# Altium footprint library Connectors.PcbLib: 28 footprints (part 2 of 2)
Each footprint in its own frame and in the unit in brackets; x right, y up, seen from the top. Pads: shape width x height; smd on the part's side, far side on the other; paste and mask are expansions set on the pad; w line width, h text height; cw(c..) or ccw(c..) is an arc to the next point about the centre after c.
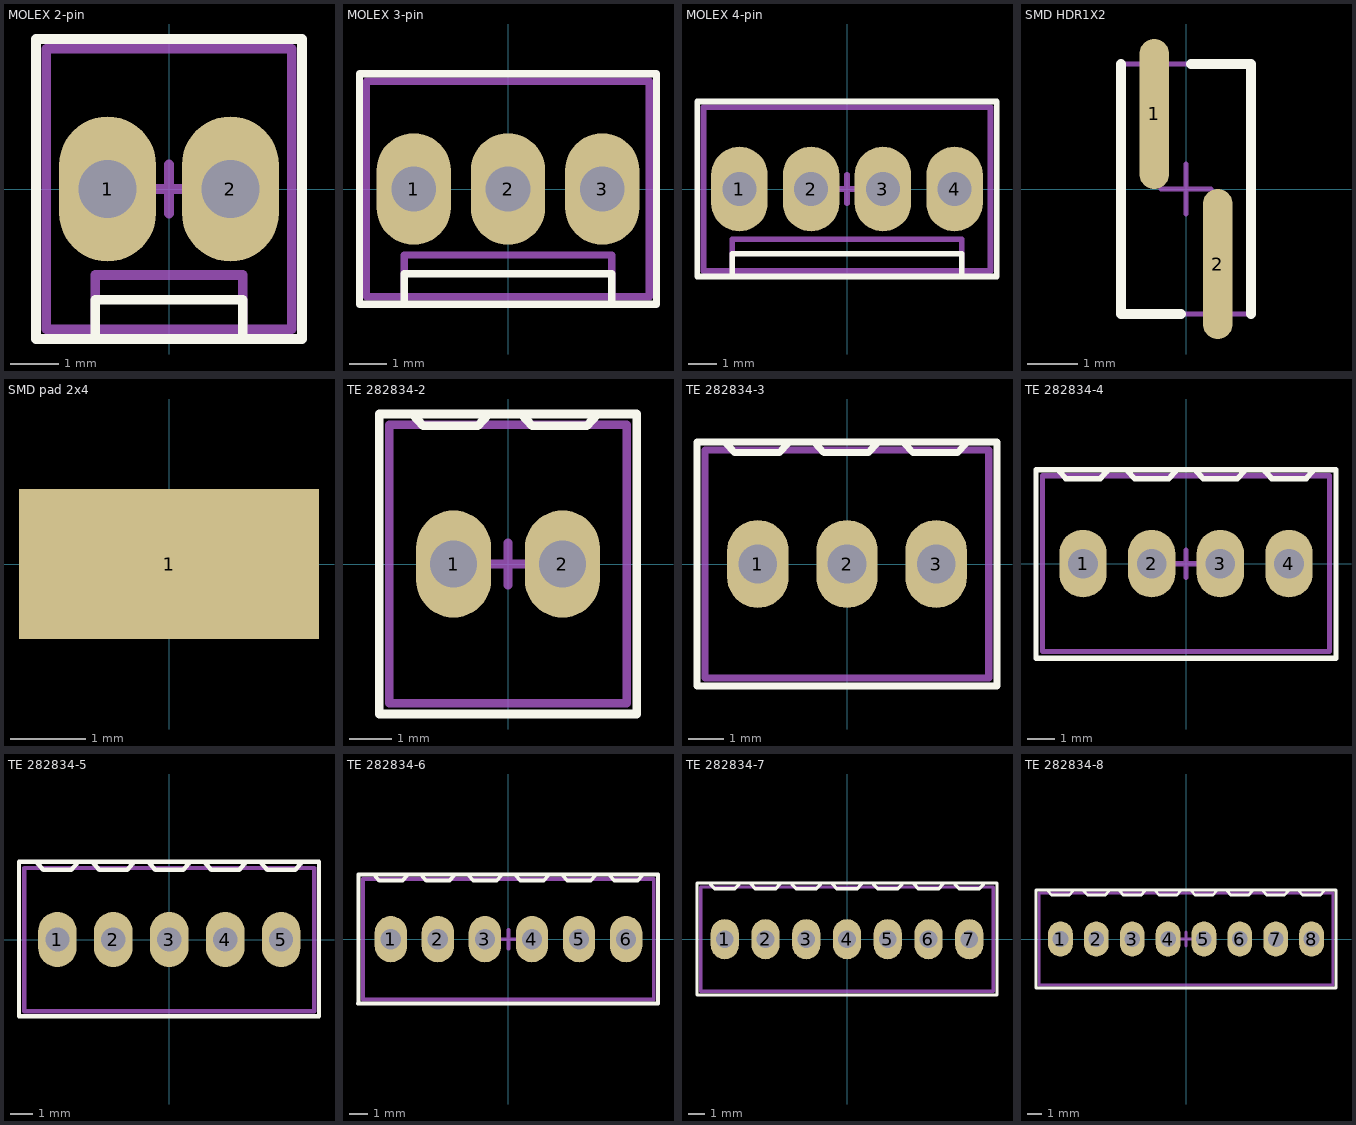
[diagram p1: the footprints below, top view; thin cyan lines are the x and y axes]

## MOLEX 2-pin [mm]
height 11.6
pads (2):
  oval 2x3 hole 1.2: 1(-1.27,0) 2(1.27,0)
Top Overlay:
  lines w0.2: -1.524,-3 -1.524,-2.286 1.524,-2.286 1.524,-3 ; -2.75,-3.1 2.75,-3.1 2.75,3.1 -2.75,3.1 -2.75,-3.1
Mechanical 13:
  lines w0.2: -1.524,-2.9 -1.524,-1.778 1.524,-1.778 1.524,-2.9 ; -2.54,-2.9 2.54,-2.9 2.54,2.9 -2.54,2.9 -2.54,-2.9
Mechanical 15:
  lines w0.2: -0.508,0 0.508,0 ; 0,-0.508 0,0.508
3D body "MOLEX KK 022272021.STEP": height 11.7, standoff -3.56, extent -2.54,-2.9 2.54,2.9

## MOLEX 3-pin [mm]
height 11.6
pads (3):
  oval 2x3 hole 1.2: 1(-2.54,0) 2(0,0) 3(2.54,0)
Top Overlay:
  lines w0.2: -2.794,-3 -2.794,-2.286 2.794,-2.286 2.794,-3 ; -4,-3.1 4,-3.1 4,3.1 -4,3.1 -4,-3.1
Mechanical 13:
  lines w0.2: -2.794,-2.9 -2.794,-1.778 2.794,-1.778 2.794,-2.9 ; -3.81,-2.9 -3.81,2.9 3.81,2.9 3.81,-2.9 -3.81,-2.9
Mechanical 15:
  lines w0.2: -0.508,0 0.508,0 ; 0,-0.508 0,0.508
3D body "MOLEX KK 022272031.STEP": height 11.7, standoff -3.56, extent -3.81,-2.9 3.81,2.9

## MOLEX 4-pin [mm]
height 11.6
pads (4):
  oval 2x3 hole 1.2: 1(-3.81,0) 2(-1.27,0) 3(1.27,0) 4(3.81,0)
Top Overlay:
  lines w0.2: -4.064,-3.1 -4.064,-2.286 4.064,-2.286 4.064,-3.1 ; -5.3,-3.1 -5.3,3.1 5.3,3.1 5.3,-3.1 -5.3,-3.1
Mechanical 13:
  lines w0.2: -4.064,-2.9 -4.064,-1.778 4.064,-1.778 4.064,-2.9 ; -5.08,-2.9 5.08,-2.9 5.08,2.9 -5.08,2.9 -5.08,-2.9
Mechanical 15:
  lines w0.2: -0.508,0 0.508,0 ; 0,-0.508 0,0.508
3D body "MOLEX KK 022272041.STEP": height 11.7, standoff -3.56, extent -5.08,-2.9 5.08,2.9

## SMD HDR1X2 [mm]
pads (2):
  oval 0.6x3 smd: 1(-0.635,1.5) 2(0.635,-1.5)
Top Overlay:
  lines w0.2: -1.3,2.5 -1.3,-2.5 -0.1,-2.5 ; 0.1,2.5 1.3,2.5 1.3,-2.5
Mechanical 13:
  lines w0.1: -1.3,-2.5 1.3,-2.5 1.3,2.5 -1.3,2.5 -1.3,-2.5
Mechanical 15:
  lines w0.1: -0.5,0 0.5,0 ; 0,-0.5 0,0.5
3D body "SMD_Header1_master.stp": height 4.5, standoff 0, extent -1.27,-2.5 1.27,2.5

## SMD pad 2x4 [mm] "2 mm x 4 mm"
pads (1):
  rect 4x2 smd: 1(0,0)

## TE 282834-2 [mm]
height 10
pads (2):
  oval 1.75x2.5 hole 1.1: 1(-1.27,0) 2(1.27,0)
Top Overlay:
  lines w0.2: -2.229,3.5 -1.975,3.221 -0.705,3.221 -0.451,3.5 ; 0.311,3.5 0.565,3.221 1.835,3.221 2.089,3.5 ; -3,-3.5 -3,3.5 3,3.5 3,-3.5 -3,-3.5
Mechanical 13:
  lines w0.2: -2.77,-3.25 -2.77,3.25 2.77,3.25 2.77,-3.25 -2.77,-3.25
Mechanical 15:
  lines w0.2: -0.5,0 0.5,0 ; 0,-0.5 0,0.5
3D body "TE Term Block 2port 282834-2-c-3d.STEP": height 10, standoff -3.4, extent -2.77,-3.25 2.77,3.25

## TE 282834-3 [mm]
height 10
pads (3):
  oval 1.75x2.5 hole 1.1: 1(-2.54,0) 2(0,0) 3(2.54,0)
Top Overlay:
  lines w0.2: -4.275,-3.475 -4.275,3.475 4.275,3.475 4.275,-3.475 -4.25,-3.475 ; -3.454,3.45 -3.2,3.171 -1.93,3.171 -1.676,3.45 ; -0.914,3.45 -0.66,3.171 0.61,3.171 0.864,3.45 ; 1.626,3.45 1.88,3.171 3.15,3.171 3.404,3.45
Mechanical 13:
  lines w0.2: -4.04,-3.25 4.04,-3.25 4.04,3.25 -4.04,3.25 -4.04,-3.25
Mechanical 15:
  lines w0.2: -0.5,0 0.5,0 ; 0,-0.5 0,0.5
3D body "TE Term Block 3port 282834-3-c-3d.STEP": height 10, standoff -3.4, extent -4.04,-3.25 4.04,3.25

## TE 282834-4 [mm]
height 10
pads (4):
  oval 1.75x2.5 hole 1.1: 1(-3.81,0) 2(-1.27,0) 3(1.27,0) 4(3.81,0)
Top Overlay:
  lines w0.2: -4.699,3.425 -4.445,3.146 -3.175,3.146 -2.921,3.425 ; -2.159,3.425 -1.905,3.146 -0.635,3.146 -0.381,3.425 ; 0.381,3.425 0.635,3.146 1.905,3.146 2.159,3.425 ; 2.921,3.425 3.175,3.146 4.445,3.146 4.699,3.425 ; -5.55,-3.5 -5.55,3.475 5.55,3.475 5.55,-3.5 -5.55,-3.5
Mechanical 13:
  lines w0.2: -5.31,-3.25 -5.31,3.25 5.31,3.25 5.31,-3.25 -5.31,-3.25
Mechanical 15:
  lines w0.2: -0.5,0 0.5,0 ; 0,-0.5 0,0.5
3D body "TE Term Block 4port 282834-4-c-3d.STEP": height 10, standoff -3.4, extent -5.31,-3.25 5.31,3.25

## TE 282834-5 [mm]
height 10
pads (5):
  oval 1.75x2.5 hole 1.1: 1(-5.08,0) 2(-2.54,0) 3(0,0) 4(2.54,0) 5(5.08,0)
Top Overlay:
  lines w0.2: -6.825,-3.475 -6.825,3.525 6.8,3.525 6.8,-3.475 -6.8,-3.475 ; -5.969,3.45 -5.715,3.171 -4.445,3.171 -4.191,3.45 ; -3.429,3.45 -3.175,3.171 -1.905,3.171 -1.651,3.45 ; -0.889,3.45 -0.635,3.171 0.635,3.171 0.889,3.45 ; 1.651,3.45 1.905,3.171 3.175,3.171 3.429,3.45 ; 4.191,3.45 4.445,3.171 5.715,3.171 5.969,3.45
Mechanical 13:
  lines w0.2: -6.58,-3.25 -6.58,3.25 6.58,3.25 6.58,-3.25 -6.58,-3.25
Mechanical 15:
  lines w0.2: -0.5,0 0.5,0 ; 0,-0.5 0,0.5
3D body "TE Term Block 5port 282834-5-c-3d.STEP": height 10, standoff -3.4, extent -6.58,-3.25 6.58,3.25

## TE 282834-6 [mm]
height 10
pads (6):
  oval 1.75x2.5 hole 1.1: 1(-6.35,0) 2(-3.81,0) 3(-1.27,0) 4(1.27,0) 5(3.81,0) 6(6.35,0)
Top Overlay:
  lines w0.2: -8.125,-3.475 8.075,-3.475 8.075,3.5 -8.1,3.5 -8.1,-3.475 ; -7.239,3.45 -6.985,3.171 -5.715,3.171 -5.461,3.45 ; -4.699,3.45 -4.445,3.171 -3.175,3.171 -2.921,3.45 ; -2.159,3.45 -1.905,3.171 -0.635,3.171 -0.381,3.45 ; 0.381,3.45 0.635,3.171 1.905,3.171 2.159,3.45 ; 2.921,3.45 3.175,3.171 4.445,3.171 4.699,3.45 ; 5.461,3.45 5.715,3.171 6.985,3.171 7.239,3.45
Mechanical 13:
  lines w0.2: -7.85,-3.25 7.85,-3.25 7.85,3.25 -7.85,3.25 -7.85,-3.25
Mechanical 15:
  lines w0.2: -0.5,0 0.5,0 ; 0,-0.5 0,0.5
3D body "TE Term Block 6port 282834-6-c-3d.STEP": height 10, standoff -3.4, extent -7.85,-3.25 7.85,3.25

## TE 282834-7 [mm]
height 10
pads (7):
  oval 1.75x2.5 hole 1.1: 1(-7.62,0) 2(-5.08,0) 3(-2.54,0) 4(0,0) 5(2.54,0) 6(5.08,0) 7(7.62,0)
Top Overlay:
  lines w0.2: -9.35,-3.475 -9.35,3.5 9.35,3.5 9.35,-3.475 -9.325,-3.475 ; -8.509,3.429 -8.255,3.15 -6.985,3.15 -6.731,3.429 ; -5.969,3.429 -5.715,3.15 -4.445,3.15 -4.191,3.429 ; -3.429,3.429 -3.175,3.15 -1.905,3.15 -1.651,3.429 ; -0.889,3.429 -0.635,3.15 0.635,3.15 0.889,3.429 ; 1.651,3.429 1.905,3.15 3.175,3.15 3.429,3.429 ; 4.191,3.429 4.445,3.15 5.715,3.15 5.969,3.429 ; 6.731,3.429 6.985,3.15 8.255,3.15 8.509,3.429
Mechanical 13:
  lines w0.2: -9.12,-3.25 9.12,-3.25 9.12,3.25 -9.12,3.25 -9.12,-3.25
Mechanical 15:
  lines w0.2: -0.5,0 0.5,0 ; 0,-0.5 0,0.5
3D body "TE Term Block 7port 282834-7-c-3d.STEP": height 10, standoff -3.4, extent -9.12,-3.25 9.12,3.25

## TE 282834-8 [mm]
height 10
pads (8):
  oval 1.75x2.5 hole 1.1: 1(-8.89,0) 2(-6.35,0) 3(-3.81,0) 4(-1.27,0) 5(1.27,0) 6(3.81,0) 7(6.35,0) 8(8.89,0)
Top Overlay:
  lines w0.2: -9.779,3.404 -9.525,3.125 -8.255,3.125 -8.001,3.404 ; -7.239,3.404 -6.985,3.125 -5.715,3.125 -5.461,3.404 ; -4.699,3.404 -4.445,3.125 -3.175,3.125 -2.921,3.404 ; -2.159,3.404 -1.905,3.125 -0.635,3.125 -0.381,3.404 ; 0.381,3.404 0.635,3.125 1.905,3.125 2.159,3.404 ; 2.921,3.404 3.175,3.125 4.445,3.125 4.699,3.404 ; 5.461,3.404 5.715,3.125 6.985,3.125 7.239,3.404 ; 8.001,3.404 8.255,3.125 9.525,3.125 9.779,3.404 ; -10.625,-3.475 -10.625,3.475 10.625,3.475 10.625,-3.475 -10.625,-3.475
Mechanical 13:
  lines w0.2: -10.39,-3.25 -10.39,3.25 10.39,3.25 10.39,-3.25 -10.39,-3.25
Mechanical 15:
  lines w0.2: -0.5,0 0.5,0 ; 0,-0.5 0,0.5
3D body "TE Term Block 8port 282834-8-c-3d.STEP": height 10, standoff -3.4, extent -10.39,-3.25 10.39,3.25